# Altium schematic symbol library EQ25LP.SchLib: 1 symbol
Pins are listed as number, name and electrical type; pins without a type are passive.

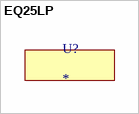
[diagram p0: symbol EQ25LP]

## EQ25LP
designator U?